# Altium footprint library smd-4.1x4.1x3.0.PcbLib: 1 footprints
Each footprint in its own frame and in the unit in brackets; x right, y up, seen from the top. Pads: shape width x height; smd on the part's side, far side on the other; paste and mask are expansions set on the pad; w line width, h text height; cw(c..) or ccw(c..) is an arc to the next point about the centre after c.
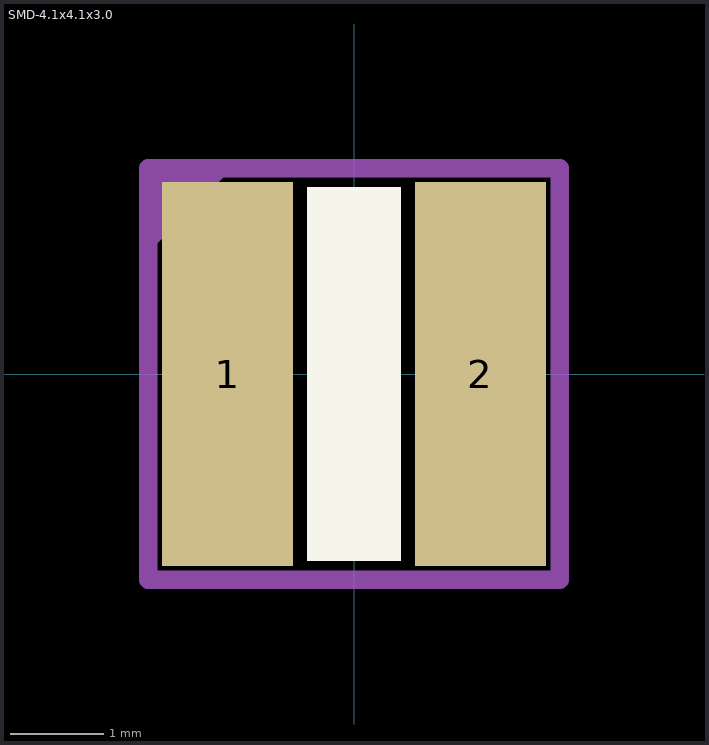
[diagram p0: the footprint, top view; thin cyan lines are the x and y axes]

## SMD-4.1x4.1x3.0 [mm]
height 3
pads (2):
  rect 1.4x4.1 smd: 1(-1.35,0) 2(1.35,0)
Top Overlay:
  rectangle: -0.5,-2 0.5,2
Top Courtyard:
  region: -2.2,2.2 -1.3,2.2 -2.2,1.3
  lines w0.2: -2.2,-2.2 2.2,-2.2 2.2,2.2 -2.2,2.2 -2.2,-2.2
Top Designator:
  text ".Designator" at -1.35,-0.25 h0.6
3D body: height 3, standoff 0, extent -2,-2 2,2